# EAGLE library part ATBS-ADC (library ATBS-ADC)
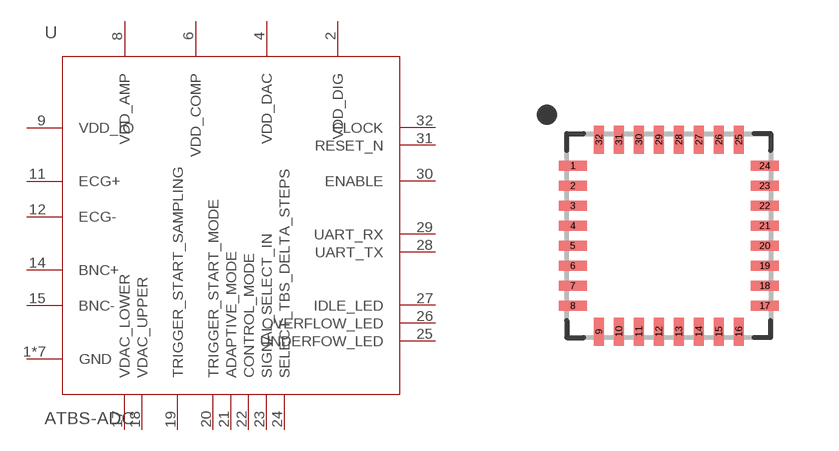
[diagram p0: symbol with the pads of ATBS-ADC; footprint ATBS-ADC]

Designator prefix U

## ATBS-ADC  [ATBS-ADC]
1  GND
2  VDD_DIG
3  GND
4  VDD_DAC
5  GND
6  VDD_COMP
7  GND
8  VDD_AMP
9  VDD_IO
10  GND
11  ECG+
12  ECG-
13  GND
14  BNC+
15  BNC-
16  GND
17  VDAC_LOWER
18  VDAC_UPPER
19  TRIGGER_START_SAMPLING
20  TRIGGER_START_MODE
21  ADAPTIVE_MODE
22  CONTROL_MODE
23  SIGNAL_SELECT_IN
24  SELECT_TBS_DELTA_STEPS
25  UNDERFOW_LED
26  OVERFLOW_LED
27  IDLE_LED
28  UART_TX
29  UART_RX
30  ENABLE
31  RESET_N
32  CLOCK

## Footprint ATBS-ADC (pad centres in mm)
32-QFN, 0.50 mm pitch, 5.00 X 5.00 X 0.75 mm body 32-pin QFN package with 0.50 mm pitch with body size 5.00 X 5.00 X 0.75 mm
smd 0.7 x 0.25: 1 -2.4,1.75; 2 -2.4,1.25; 3 -2.4,0.75; 4 -2.4,0.25; 5 -2.4,-0.25; 6 -2.4,-0.75; 7 -2.4,-1.25; 8 -2.4,-1.75; 17 2.4,-1.75; 18 2.4,-1.25; 19 2.4,-0.75; 20 2.4,-0.25; 21 2.4,0.25; 22 2.4,0.75; 23 2.4,1.25; 24 2.4,1.75
smd 0.25 x 0.7: 9 -1.75,-2.4; 10 -1.25,-2.4; 11 -0.75,-2.4; 12 -0.25,-2.4; 13 0.25,-2.4; 14 0.75,-2.4; 15 1.25,-2.4; 16 1.75,-2.4; 25 1.75,2.4; 26 1.25,2.4; 27 0.75,2.4; 28 0.25,2.4; 29 -0.25,2.4; 30 -0.75,2.4; 31 -1.25,2.4; 32 -1.75,2.4